# EAGLE library part LM2575_TAB (library sc_usercreated)
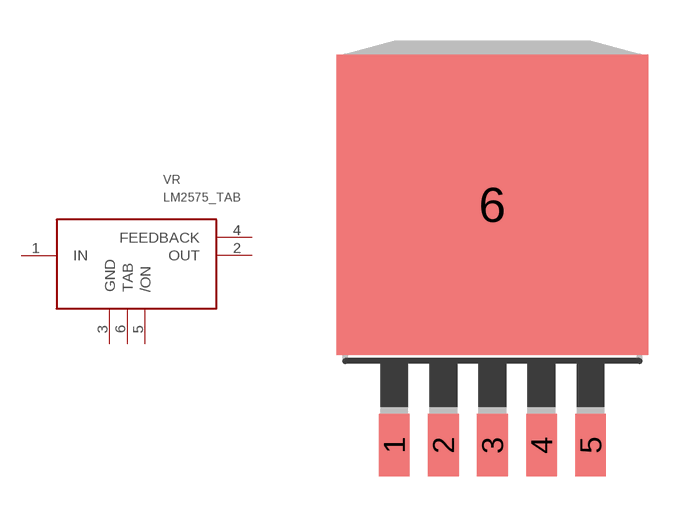
[diagram p10: symbol with the pads of TO263-5; footprint TO263-5]

Designator prefix VR

## LM2575_TAB  [TO263-5]
1  IN
2  OUT
3  GND
4  FEEDBACK
5  /ON
6  TAB

## Footprint TO263-5 (pad centres in mm)
smd 1.067 x 2.159: 1 -3.404,-8.331; 2 -1.702,-8.331; 3 0,-8.331; 4 1.702,-8.331; 5 3.404,-8.331
smd 10.8 x 10.41: 6 0,0